# Altium footprint library 天线座.PcbLib: 3 footprints
Each footprint in its own frame and in the unit in brackets; x right, y up, seen from the top. Pads: shape width x height; smd on the part's side, far side on the other; paste and mask are expansions set on the pad; w line width, h text height; cw(c..) or ccw(c..) is an arc to the next point about the centre after c.
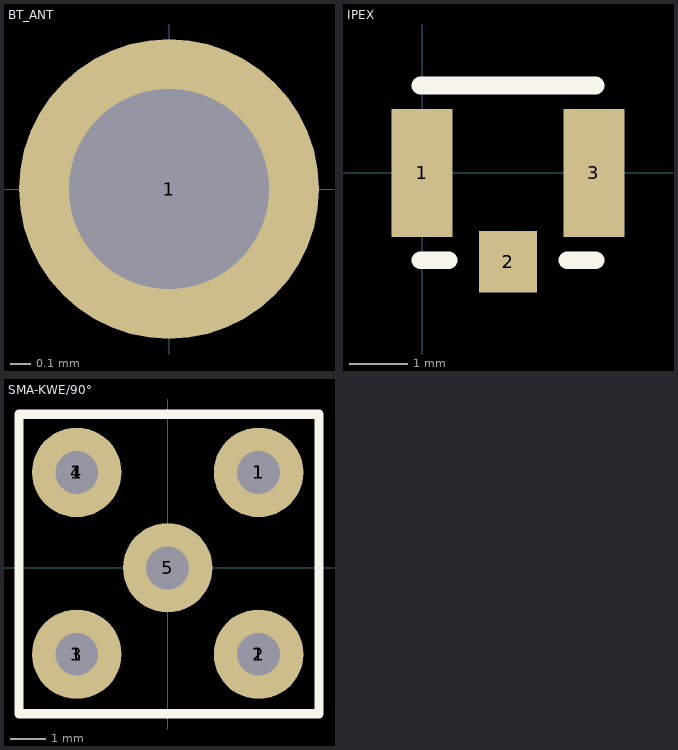
[diagram p0: the footprints below, top view; thin cyan lines are the x and y axes]

## BT_ANT [mm]
pads (1):
  round 1.5 hole 1: 1(0,0)

## IPEX [mm]
pads (3):
  rect 1.05x2.2 smd: 1(0,0) 3(2.95,0)
  rect 1x1.05 smd: 2(1.475,-1.525)
Top Overlay:
  lines w0.305: -0.025,-1.5 0.459,-1.5 ; 2.491,-1.5 2.975,-1.5 ; -0.025,1.5 2.975,1.5 1.475,1.5 -0.025,1.5
3D body "IPEX.STEP": height 1.25, standoff -0.01, extent 0.024,-1.55 3.024,1.55

## SMA-KWE/90° [mm]
pads (13):
  round 2.703 on Top Solder hole 1.2: 1(-2.54,-2.413) 1(-2.54,2.667) 1(2.54,-2.413) 1(2.54,2.667)
  round 2.703 on Bottom Solder hole 1.2: 1(-2.54,-2.413) 1(-2.54,2.667) 1(2.54,-2.413) 1(2.54,2.667)
  round 2.5 hole 1.2: 1(2.54,2.667) 2(2.54,-2.413) 3(-2.54,-2.413) 4(-2.54,2.667) 5(0,0)
Top Overlay:
  lines w0.254: -4.153,-4.077 -4.153,4.293 4.229,4.293 4.229,-4.077 -4.153,-4.077
3D body "天线插座SMA-J-P-H": height 9.86, standoff -4.24, extent -3.5,-3.5 3.5,11.6